# Altium schematic symbol library IXFK.Schlib: 1 symbol
Pins are listed as number, name and electrical type; pins without a type are passive.

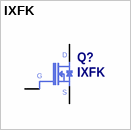
[diagram p0: symbol IXFK]

## IXFK
designator Q?
pins: 1 G, 2 D, 3 S